# Altium schematic symbol library mechanic.SchLib: 12 symbols
Pins are listed as number, name and electrical type; pins without a type are passive.

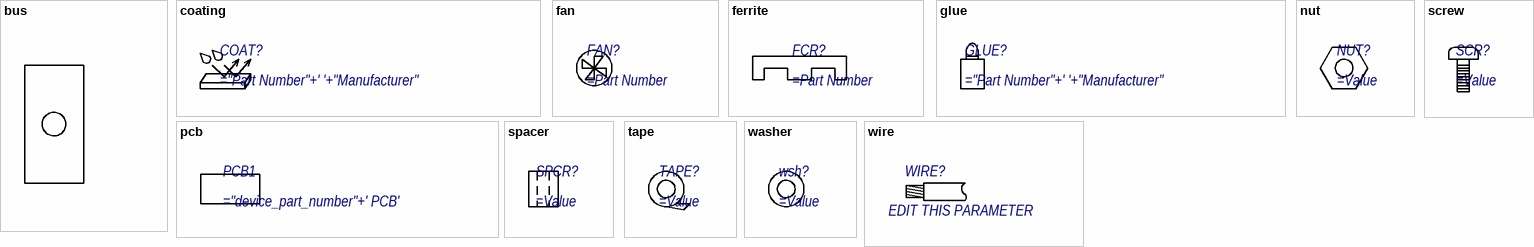
[diagram p0: symbols bus to wire]

## bus
designator BUS?

## coating
designator COAT?

## fan
designator FAN?
1 alternate drawing of the same symbol

## ferrite
designator FCR?

## glue
designator GLUE?

## nut
designator NUT?  (mechanical)

## pcb
designator PCB1  (mechanical)

## screw
designator SCR?  (mechanical)

## spacer
designator SPCR?
2 alternate drawings of the same symbol

## tape
designator TAPE?  (mechanical)

## washer
designator wsh?  (mechanical)

## wire
designator WIRE?  Length: EDIT THIS PARAMETER  (mechanical)